# EAGLE library part SN74LVC16373ADGVR (library 029000100  -  gKEagleLibrary)
16-BIT TRANSPARENT D-TYPE LATCH WITH 3-STATE OUTPUTS
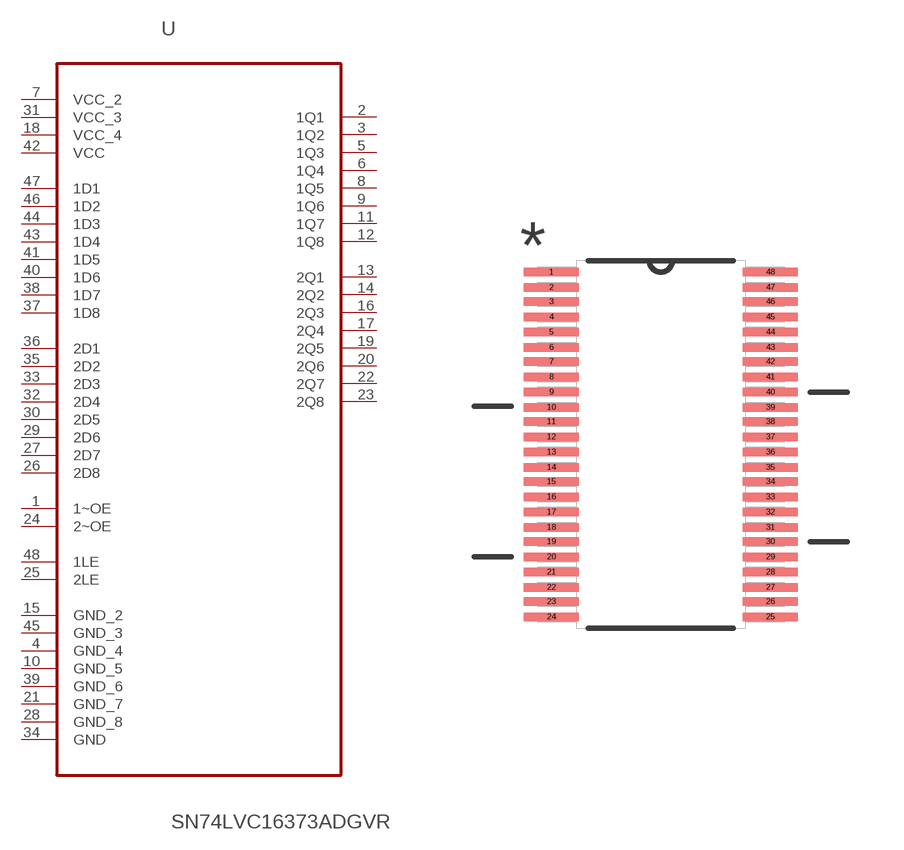
[diagram p42: symbol with the pads of SOP40P640X120-48N; footprint SOP40P640X120-48N]

Designator prefix U

## SN74LVC16373ADGVR (MPN: SN74LVC16373ADGVR; OC_FARNELL: 1607834; OC_NEWARK: 76C4167; PACKAGE: TVSOP-48; SUPPLIER: Texas Instruments)  [SOP40P640X120-48N]
1  1~OE  in
2  1Q1  out
3  1Q2  out
4  GND_4  pas
5  1Q3  out
6  1Q4  out
7  VCC_2  pwr
8  1Q5  out
9  1Q6  out
10  GND_5  pas
11  1Q7  out
12  1Q8  out
13  2Q1  out
14  2Q2  out
15  GND_2  pas
16  2Q3  out
17  2Q4  out
18  VCC_4  pwr
19  2Q5  out
20  2Q6  out
21  GND_7  pas
22  2Q7  out
23  2Q8  out
24  2~OE  in
25  2LE  in
26  2D8  in
27  2D7  in
28  GND_8  pas
29  2D6  in
30  2D5  in
31  VCC_3  pwr
32  2D4  in
33  2D3  in
34  GND  pas
35  2D2  in
36  2D1  in
37  1D8  in
38  1D7  in
39  GND_6  pas
40  1D6  in
41  1D5  in
42  VCC  pwr
43  1D4  in
44  1D3  in
45  GND_3  pas
46  1D2  in
47  1D1  in
48  1LE  in

## Footprint SOP40P640X120-48N (pad centres in mm)
smd 1.473 x 0.229: 1 -2.921,4.597; 2 -2.921,4.191; 3 -2.921,3.81; 4 -2.921,3.404; 5 -2.921,2.997; 6 -2.921,2.591; 7 -2.921,2.21; 8 -2.921,1.803; 9 -2.921,1.397; 10 -2.921,0.991; 11 -2.921,0.61; 12 -2.921,0.203; 13 -2.921,-0.203; 14 -2.921,-0.61; 15 -2.921,-0.991; 16 -2.921,-1.397; 17 -2.921,-1.803; 18 -2.921,-2.21; 19 -2.921,-2.591; 20 -2.921,-2.997; 21 -2.921,-3.404; 22 -2.921,-3.81; 23 -2.921,-4.191; 24 -2.921,-4.597; 25 2.921,-4.597; 26 2.921,-4.191; 27 2.921,-3.81; 28 2.921,-3.404; 29 2.921,-2.997; 30 2.921,-2.591; 31 2.921,-2.21; 32 2.921,-1.803; 33 2.921,-1.397; 34 2.921,-0.991; 35 2.921,-0.61; 36 2.921,-0.203; 37 2.921,0.203; 38 2.921,0.61; 39 2.921,0.991; 40 2.921,1.397; 41 2.921,1.803; 42 2.921,2.21; 43 2.921,2.591; 44 2.921,2.997; 45 2.921,3.404; 46 2.921,3.81; 47 2.921,4.191; 48 2.921,4.597